# EAGLE library part LMD18200T (library lib_paul)
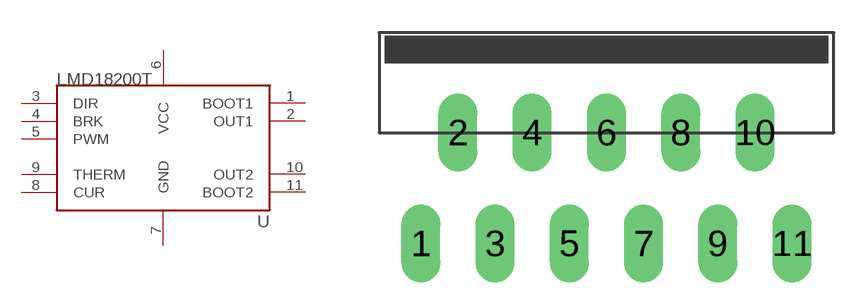
[diagram p1: symbol with the pads of TO220-11; footprint TO220-11]

Designator prefix -

## LMD18200T  [TO220-11]
1  BOOT1
2  OUT1
3  DIR
4  BRK
5  PWM
6  VCC
7  GND
8  CUR
9  THERM
10  OUT2
11  BOOT2

## Footprint TO220-11 (pad centres in mm)
drill 1 pad 1.778 long: 1 -8.509,-5.08; 2 -6.807,0; 3 -5.105,-5.08; 4 -3.404,0; 5 -1.702,-5.08; 6 0,0; 7 1.702,-5.08; 8 3.404,0; 9 5.105,-5.08; 10 6.807,0; 11 8.509,-5.08